# Altium schematic symbol library A000066.SchLib: 1 symbol
Pins are listed as number, name and electrical type; pins without a type are passive.

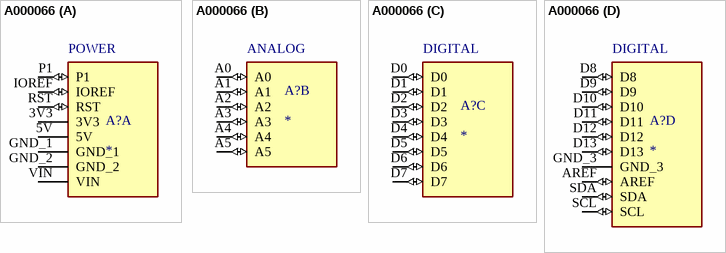
[diagram p0: symbol A000066]

## A000066
designator A?
Microcontroller board based on the ATmega328P.; MF: Arduino; MP: Arduino Uno Rev3; Value: *; SnapEDA_Link: https://www.snapeda.com/parts/Arduino%20Uno%20Rev3/Arduino/view-part/?ref=snap; Availability: Not in stock; Price: None; Package: Non-Standard Arduino; Check_prices: https://www.snapeda.com/parts/Arduino%20Uno%20Rev3/Arduino/view-part/?ref=eda
footprint ARDUINO_A000066 (Footprint not found)
part A pins: 3V3 (power), 5V (power), GND_1 (power), GND_2 (power), IOREF (io), P1 (io), RST (io), VIN (power)
part B pins: A0 (io), A1 (io), A2 (io), A3 (io), A4 (io), A5 (io)
part C pins: D0 (io), D1 (io), D2 (io), D3 (io), D4 (io), D5 (io), D6 (io), D7 (io)
part D pins: AREF (io), D8 (io), D9 (io), D10 (io), D11 (io), D12 (io), D13 (io), GND_3 (power), SCL (io), SDA (io)
part A text: POWER
part B text: ANALOG
part C text: DIGITAL
part D text: DIGITAL